# Altium footprint library Inductor_SMD.PcbLib: 587 footprints (part 17 of 37)
Each footprint in its own frame and in the unit in brackets; x right, y up, seen from the top. Pads: shape width x height; smd on the part's side, far side on the other; paste and mask are expansions set on the pad; w line width, h text height; cw(c..) or ccw(c..) is an arc to the next point about the centre after c.
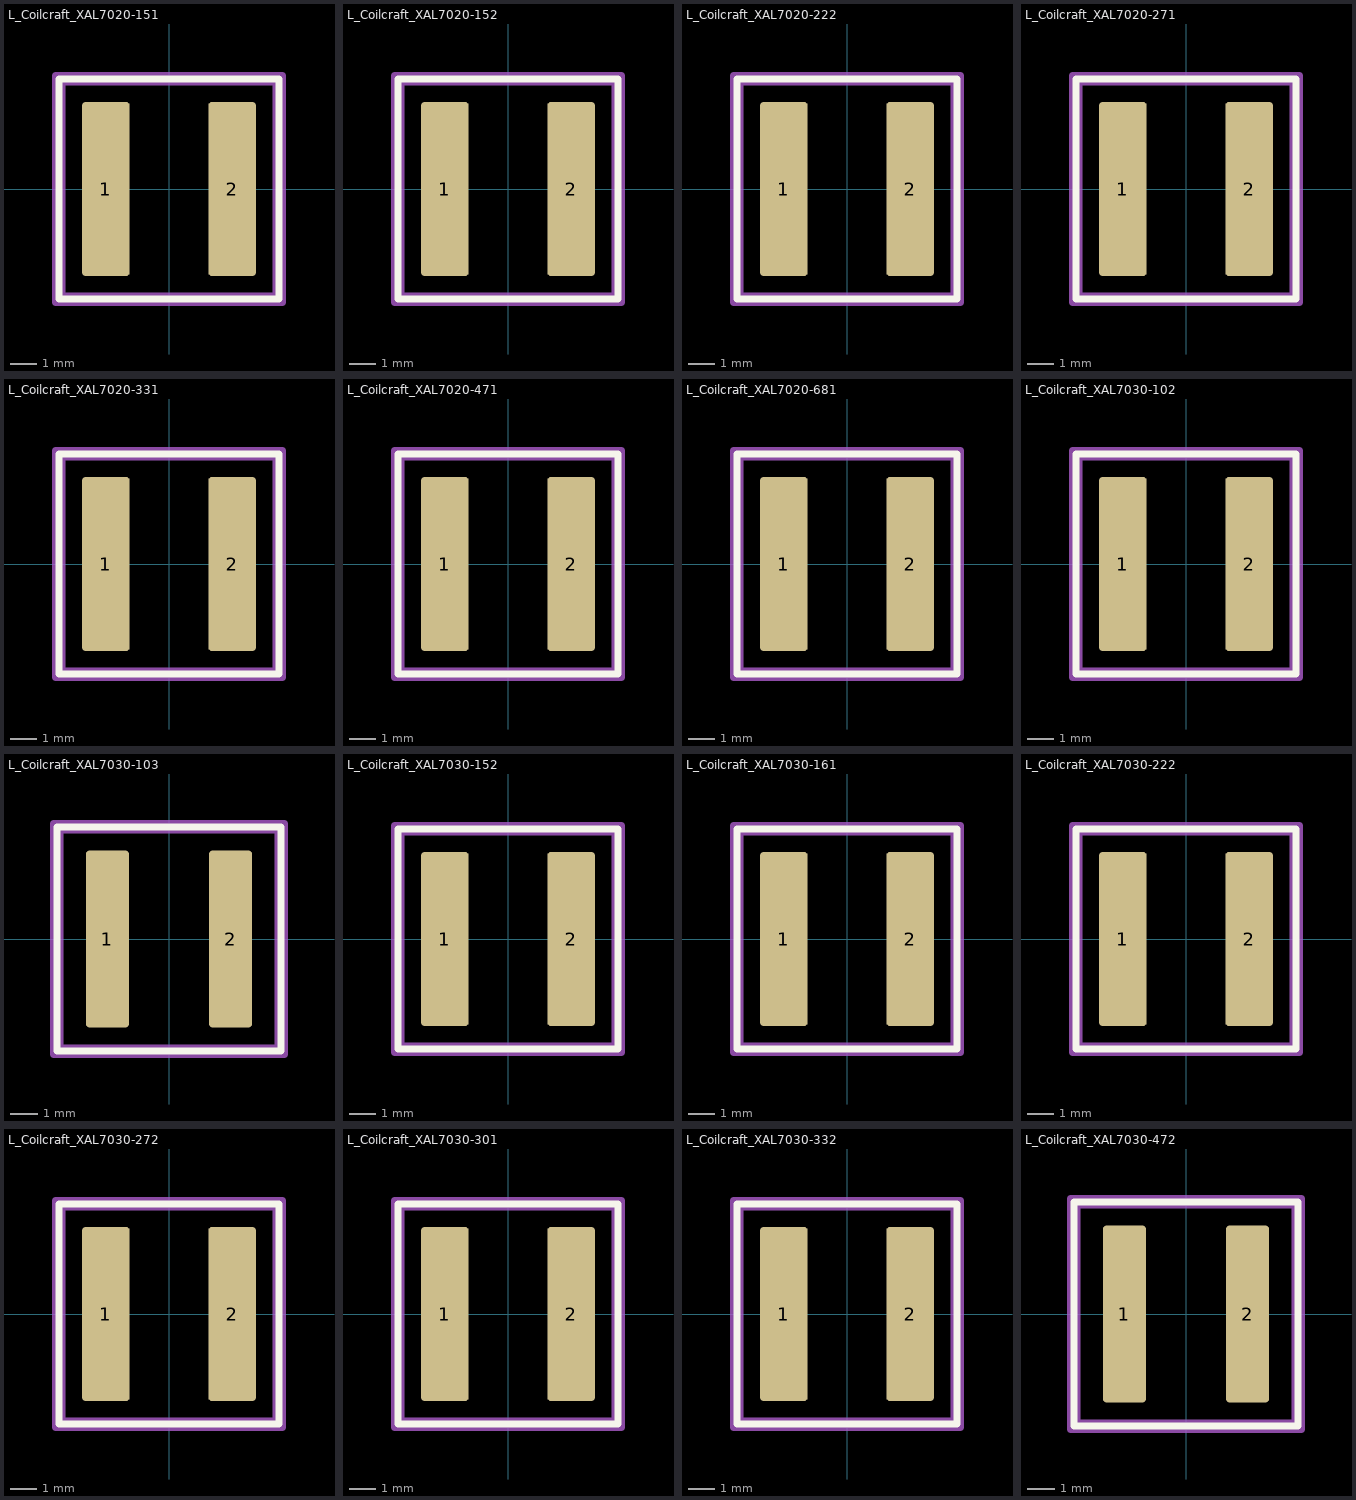
[diagram p16: the footprints below, top view; thin cyan lines are the x and y axes]

## L_Coilcraft_XAL7020-151 [mm] "L_Coilcraft_XAL7020-151"
pads (2):
  rrect14% 1.78x6.5 smd: 1(-2.36,0) 2(2.36,0)
F.SilkS:
  lines w0.254: -4.11,-4.11 -4.11,4.11 4.11,4.11 4.11,-4.11 -4.11,-4.11
Top Assembly:
  lines w0.254: -4,-4 -4,4 4,4 4,-4 -4,-4
  text "'.Designator'" at -4.047,-0.84 h1
Top Courtyard:
  lines w0.254: -4.25,-4.25 -4.25,4.25 4.25,4.25 4.25,-4.25 -4.25,-4.25
Top Designator:
  text ".Designator" at -7.618,-0.508 h1.52
3D body "L_Coilcraft_XAL7020-151.step": height 2.05, standoff 0, extent -4,-4 4,4

## L_Coilcraft_XAL7020-152 [mm] "L_Coilcraft_XAL7020-152"
pads (2):
  rrect14% 1.78x6.5 smd: 1(-2.36,0) 2(2.36,0)
F.SilkS:
  lines w0.254: -4.11,-4.11 -4.11,4.11 4.11,4.11 4.11,-4.11 -4.11,-4.11
Top Assembly:
  lines w0.254: -4,-4 -4,4 4,4 4,-4 -4,-4
  text "'.Designator'" at -4.047,-0.84 h1
Top Courtyard:
  lines w0.254: -4.25,-4.25 -4.25,4.25 4.25,4.25 4.25,-4.25 -4.25,-4.25
Top Designator:
  text ".Designator" at -7.618,-0.508 h1.52
3D body "L_Coilcraft_XAL7020-152.step": height 2, standoff 0, extent -4,-4 4,4

## L_Coilcraft_XAL7020-222 [mm] "L_Coilcraft_XAL7020-222"
pads (2):
  rrect14% 1.78x6.5 smd: 1(-2.36,0) 2(2.36,0)
F.SilkS:
  lines w0.254: -4.11,-4.11 4.11,-4.11 4.11,4.11 -4.11,4.11 -4.11,-4.11
Top Assembly:
  lines w0.254: -4,-4 4,-4 4,4 -4,4 -4,-4
  text "'.Designator'" at -4.047,-0.84 h1
Top Courtyard:
  lines w0.254: -4.25,-4.25 4.25,-4.25 4.25,4.25 -4.25,4.25 -4.25,-4.25
Top Designator:
  text ".Designator" at -7.618,-0.508 h1.52
3D body "L_Coilcraft_XAL7020-222.step": height 2, standoff 0, extent -4,-4 4,4

## L_Coilcraft_XAL7020-271 [mm] "L_Coilcraft_XAL7020-271"
pads (2):
  rrect14% 1.78x6.5 smd: 1(-2.36,0) 2(2.36,0)
F.SilkS:
  lines w0.254: -4.11,-4.11 -4.11,4.11 4.11,4.11 4.11,-4.11 -4.11,-4.11
Top Assembly:
  lines w0.254: -4,-4 -4,4 4,4 4,-4 -4,-4
  text "'.Designator'" at -4.047,-0.84 h1
Top Courtyard:
  lines w0.254: -4.25,-4.25 -4.25,4.25 4.25,4.25 4.25,-4.25 -4.25,-4.25
Top Designator:
  text ".Designator" at -7.618,-0.508 h1.52
3D body "L_Coilcraft_XAL7020-271.step": height 2.05, standoff 0, extent -4,-4 4,4

## L_Coilcraft_XAL7020-331 [mm] "L_Coilcraft_XAL7020-331"
pads (2):
  rrect14% 1.78x6.5 smd: 1(-2.36,0) 2(2.36,0)
F.SilkS:
  lines w0.254: -4.11,-4.11 -4.11,4.11 4.11,4.11 4.11,-4.11 -4.11,-4.11
Top Assembly:
  lines w0.254: -4,-4 -4,4 4,4 4,-4 -4,-4
  text "'.Designator'" at -4.047,-0.84 h1
Top Courtyard:
  lines w0.254: -4.25,-4.25 -4.25,4.25 4.25,4.25 4.25,-4.25 -4.25,-4.25
Top Designator:
  text ".Designator" at -7.618,-0.508 h1.52
3D body "L_Coilcraft_XAL7020-331.step": height 2, standoff 0, extent -4,-4 4,4

## L_Coilcraft_XAL7020-471 [mm] "L_Coilcraft_XAL7020-471"
pads (2):
  rrect14% 1.78x6.5 smd: 1(-2.36,0) 2(2.36,0)
F.SilkS:
  lines w0.254: -4.11,-4.11 -4.11,4.11 4.11,4.11 4.11,-4.11 -4.11,-4.11
Top Assembly:
  lines w0.254: -4,-4 -4,4 4,4 4,-4 -4,-4
  text "'.Designator'" at -4.047,-0.84 h1
Top Courtyard:
  lines w0.254: -4.25,-4.25 -4.25,4.25 4.25,4.25 4.25,-4.25 -4.25,-4.25
Top Designator:
  text ".Designator" at -7.618,-0.508 h1.52
3D body "L_Coilcraft_XAL7020-471.step": height 2, standoff 0, extent -4,-4 4,4

## L_Coilcraft_XAL7020-681 [mm] "L_Coilcraft_XAL7020-681"
pads (2):
  rrect14% 1.78x6.5 smd: 1(-2.36,0) 2(2.36,0)
F.SilkS:
  lines w0.254: -4.11,-4.11 4.11,-4.11 4.11,4.11 -4.11,4.11 -4.11,-4.11
Top Assembly:
  lines w0.254: -4,-4 4,-4 4,4 -4,4 -4,-4
  text "'.Designator'" at -4.047,-0.84 h1
Top Courtyard:
  lines w0.254: -4.25,-4.25 4.25,-4.25 4.25,4.25 -4.25,4.25 -4.25,-4.25
Top Designator:
  text ".Designator" at -7.618,-0.508 h1.52
3D body "L_Coilcraft_XAL7020-681.step": height 2, standoff 0, extent -4,-4 4,4

## L_Coilcraft_XAL7030-102 [mm] "L_Coilcraft_XAL7030-102"
pads (2):
  rrect14% 1.78x6.5 smd: 1(-2.36,0) 2(2.36,0)
F.SilkS:
  lines w0.254: -4.11,-4.11 -4.11,4.11 4.11,4.11 4.11,-4.11 -4.11,-4.11
Top Assembly:
  lines w0.254: -4,-4 -4,4 4,4 4,-4 -4,-4
  text "'.Designator'" at -4.047,-0.84 h1
Top Courtyard:
  lines w0.254: -4.25,-4.25 -4.25,4.25 4.25,4.25 4.25,-4.25 -4.25,-4.25
Top Designator:
  text ".Designator" at -7.618,-0.508 h1.52
3D body "L_Coilcraft_XAL7030-102.step": height 3.1, standoff 0, extent -4,-4 4,4

## L_Coilcraft_XAL7030-103 [mm] "L_Coilcraft_XAL7030-103"
pads (2):
  rrect16% 1.58x6.5 smd: 1(-2.26,0) 2(2.26,0)
F.SilkS:
  lines w0.254: -4.11,-4.11 -4.11,4.11 4.11,4.11 4.11,-4.11 -4.11,-4.11
Top Assembly:
  lines w0.254: -4,-4 -4,4 4,4 4,-4 -4,-4
  text "'.Designator'" at -4.047,-0.84 h1
Top Courtyard:
  lines w0.254: -4.25,-4.25 -4.25,4.25 4.25,4.25 4.25,-4.25 -4.25,-4.25
Top Designator:
  text ".Designator" at -7.618,-0.508 h1.52
3D body "L_Coilcraft_XAL7030-103.step": height 3.1, standoff 0, extent -4,-4 4,4

## L_Coilcraft_XAL7030-152 [mm] "L_Coilcraft_XAL7030-152"
pads (2):
  rrect14% 1.78x6.5 smd: 1(-2.36,0) 2(2.36,0)
F.SilkS:
  lines w0.254: -4.11,-4.11 -4.11,4.11 4.11,4.11 4.11,-4.11 -4.11,-4.11
Top Assembly:
  lines w0.254: -4,-4 -4,4 4,4 4,-4 -4,-4
  text "'.Designator'" at -4.047,-0.84 h1
Top Courtyard:
  lines w0.254: -4.25,-4.25 -4.25,4.25 4.25,4.25 4.25,-4.25 -4.25,-4.25
Top Designator:
  text ".Designator" at -7.618,-0.508 h1.52
3D body "L_Coilcraft_XAL7030-152.step": height 3.1, standoff 0, extent -4,-4 4,4

## L_Coilcraft_XAL7030-161 [mm] "L_Coilcraft_XAL7030-161"
pads (2):
  rrect14% 1.78x6.5 smd: 1(-2.36,0) 2(2.36,0)
F.SilkS:
  lines w0.254: -4.11,-4.11 4.11,-4.11 4.11,4.11 -4.11,4.11 -4.11,-4.11
Top Assembly:
  lines w0.254: -4,-4 4,-4 4,4 -4,4 -4,-4
  text "'.Designator'" at -4.047,-0.84 h1
Top Courtyard:
  lines w0.254: -4.25,-4.25 4.25,-4.25 4.25,4.25 -4.25,4.25 -4.25,-4.25
Top Designator:
  text ".Designator" at -7.618,-0.508 h1.52
3D body "L_Coilcraft_XAL7030-161.step": height 3.1, standoff 0, extent -4,-4 4,4

## L_Coilcraft_XAL7030-222 [mm] "L_Coilcraft_XAL7030-222"
pads (2):
  rrect14% 1.78x6.5 smd: 1(-2.36,0) 2(2.36,0)
F.SilkS:
  lines w0.254: -4.11,-4.11 -4.11,4.11 4.11,4.11 4.11,-4.11 -4.11,-4.11
Top Assembly:
  lines w0.254: -4,-4 -4,4 4,4 4,-4 -4,-4
  text "'.Designator'" at -4.047,-0.84 h1
Top Courtyard:
  lines w0.254: -4.25,-4.25 -4.25,4.25 4.25,4.25 4.25,-4.25 -4.25,-4.25
Top Designator:
  text ".Designator" at -7.618,-0.508 h1.52
3D body "L_Coilcraft_XAL7030-222.step": height 3.1, standoff 0, extent -4,-4 4,4

## L_Coilcraft_XAL7030-272 [mm] "L_Coilcraft_XAL7030-272"
pads (2):
  rrect14% 1.78x6.5 smd: 1(-2.36,0) 2(2.36,0)
F.SilkS:
  lines w0.254: -4.11,-4.11 -4.11,4.11 4.11,4.11 4.11,-4.11 -4.11,-4.11
Top Assembly:
  lines w0.254: -4,-4 -4,4 4,4 4,-4 -4,-4
  text "'.Designator'" at -4.047,-0.84 h1
Top Courtyard:
  lines w0.254: -4.25,-4.25 -4.25,4.25 4.25,4.25 4.25,-4.25 -4.25,-4.25
Top Designator:
  text ".Designator" at -7.618,-0.508 h1.52
3D body "L_Coilcraft_XAL7030-272.step": height 3.1, standoff 0, extent -4,-4 4,4

## L_Coilcraft_XAL7030-301 [mm] "L_Coilcraft_XAL7030-301"
pads (2):
  rrect14% 1.78x6.5 smd: 1(-2.36,0) 2(2.36,0)
F.SilkS:
  lines w0.254: -4.11,-4.11 4.11,-4.11 4.11,4.11 -4.11,4.11 -4.11,-4.11
Top Assembly:
  lines w0.254: -4,-4 4,-4 4,4 -4,4 -4,-4
  text "'.Designator'" at -4.047,-0.84 h1
Top Courtyard:
  lines w0.254: -4.25,-4.25 4.25,-4.25 4.25,4.25 -4.25,4.25 -4.25,-4.25
Top Designator:
  text ".Designator" at -7.618,-0.508 h1.52
3D body "L_Coilcraft_XAL7030-301.step": height 3.1, standoff 0, extent -4,-4 4,4

## L_Coilcraft_XAL7030-332 [mm] "L_Coilcraft_XAL7030-332"
pads (2):
  rrect14% 1.78x6.5 smd: 1(-2.36,0) 2(2.36,0)
F.SilkS:
  lines w0.254: -4.11,-4.11 4.11,-4.11 4.11,4.11 -4.11,4.11 -4.11,-4.11
Top Assembly:
  lines w0.254: -4,-4 4,-4 4,4 -4,4 -4,-4
  text "'.Designator'" at -4.047,-0.84 h1
Top Courtyard:
  lines w0.254: -4.25,-4.25 4.25,-4.25 4.25,4.25 -4.25,4.25 -4.25,-4.25
Top Designator:
  text ".Designator" at -7.618,-0.508 h1.52
3D body "L_Coilcraft_XAL7030-332.step": height 3.1, standoff 0, extent -4,-4 4,4

## L_Coilcraft_XAL7030-472 [mm] "L_Coilcraft_XAL7030-472"
pads (2):
  rrect16% 1.58x6.5 smd: 1(-2.26,0) 2(2.26,0)
F.SilkS:
  lines w0.254: -4.11,-4.11 -4.11,4.11 4.11,4.11 4.11,-4.11 -4.11,-4.11
Top Assembly:
  lines w0.254: -4,-4 -4,4 4,4 4,-4 -4,-4
  text "'.Designator'" at -4.047,-0.84 h1
Top Courtyard:
  lines w0.254: -4.25,-4.25 -4.25,4.25 4.25,4.25 4.25,-4.25 -4.25,-4.25
Top Designator:
  text ".Designator" at -7.618,-0.508 h1.52
3D body "L_Coilcraft_XAL7030-472.step": height 3.1, standoff 0, extent -4,-4 4,4